# Altium integrated library SS8050.IntLib: 1 symbol
Pins are listed as number, name and electrical type; pins without a type are passive.

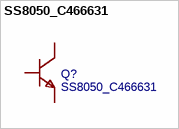
[diagram p0: symbol SS8050_C466631]

## SS8050_C466631
designator Q?
BOM_Manufacturer: High Diode; BOM_Manufacturer Part: SS8050; Contributor: LCSC; BOM_Supplier: LCSC; BOM_Supplier Part: C466631; BOM_JLCPCB Part Class: Extended Part; spicePre: Q; spiceSymbolName: SS8050_C466631
footprint SOT-23-3_L2.9-W1.3-P1.90-LS2.4-BR
pins: 1 B, 2 E, 3 C